# Altium schematic symbol library other.SchLib: 110 symbols
Pins are listed as number, name and electrical type; pins without a type are passive.

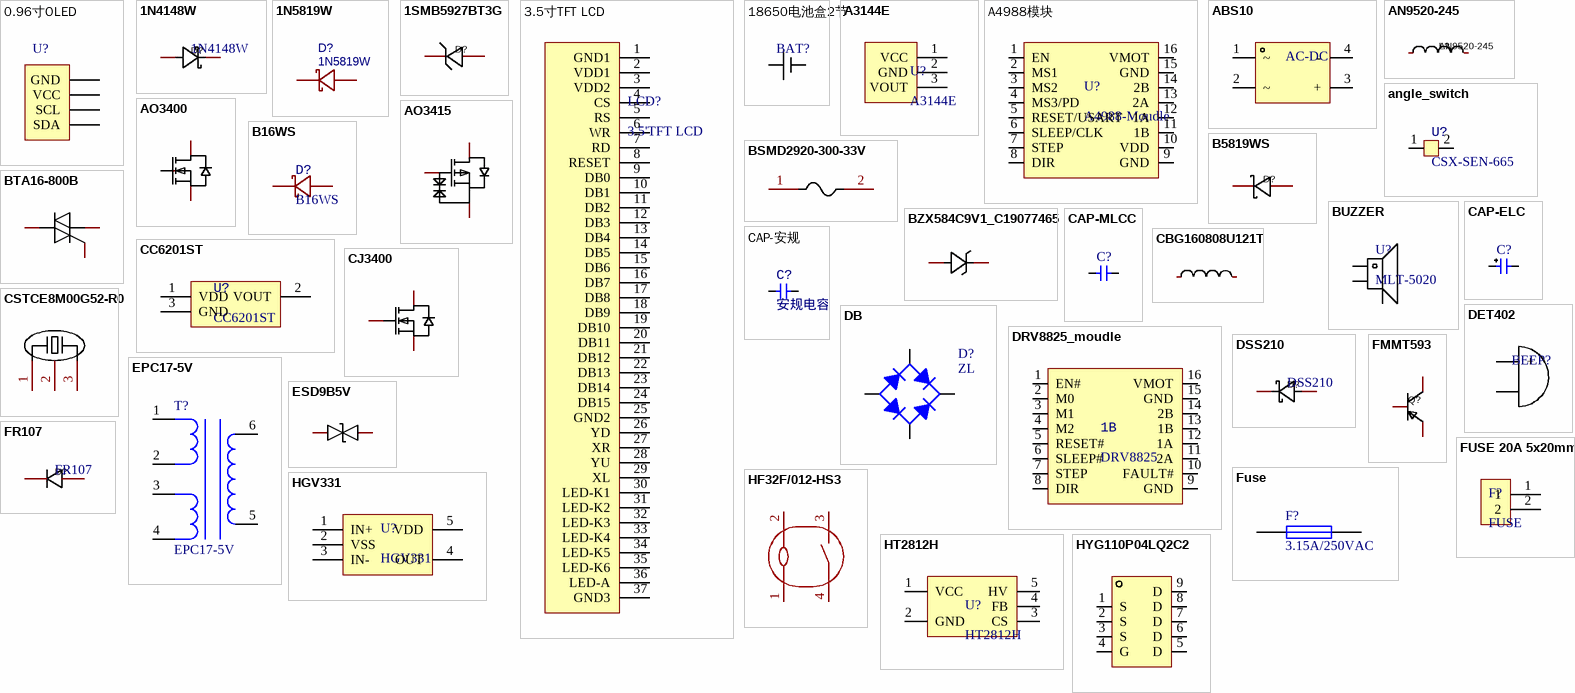
[diagram p0: symbols 0.96寸OLED to HYG110P04LQ2C2]

## 0.96寸OLED
designator U?
footprint 0.96寸OLED
pins: 1 GND, 2 VCC, 3 SCL, 4 SDA

## 1N4148W
designator D?
Manufacturer: 宏迦橙; Symbol: 1N4148W_C7420318; Add into BOM: yes; Diode Configuration: 独立式; Forward Voltage (Vf@If): 1.25V@150mA; Reverse Voltage (Vr): 100V; Average Rectified Current (Io): 150mA; Power Dissipation: 400mW; Reverse Leakage Current: 1uA@75V; Reverse Recovery Time (trr): 4ns; Device: 1N4148W_C7420318; Supplier: LCSC; Supplier Part: C7420318; Manufacturer Part: 1N4148W; JLCPCB Part Class: Extended Part; LCSC Part Name: 电压:100V 电流:150mA; Supplier Footprint: SOD-123; Datasheet: https://atta.szlcsc.com/upload/public/pdf/source/20230828/E5C3F7A4272052930A7E03B75759BF50.pdf; Convert to PCB: yes; Operating Temperature: -55℃~+150℃
footprint SOD-123_L2.7-W1.6-LS3.7-FD
pins: 1 A, 2 K

## 1N5819W
designator D?
BOM_Manufacturer: YFW佑风微; Contributor: LCSC; BOM_Supplier: LCSC; BOM_Supplier Part: C1884550; BOM_Manufacturer Part: 1N5819W; BOM_JLCPCB Part Class: Extended Part; spicePre: D; spiceSymbolName: 1N5819W_C1884550
footprint SOD-123F_L2.7-W1.7-LS3.7-RD-1
pins: 1 A, 2 K

## 1SMB5927BT3G
designator D?  (value not drawn)
Manufacturer: onsemi(安森美); Add into BOM: yes; Diode Configuration: 独立式; Zener Voltage (Nom): 12V; Zener Voltage (Range): 11.4V~12.6V; Tolerance: ±5%; Power Dissipation: 550mW; Reverse Leakage Current (Ir): 1uA@9.1V; Zener Impedance (Zzt): 6.5Ω; Name: 1SMB5927BT3G; Symbol: 1SMB5927BT3G; Device: 1SMB5927BT3G; LCSC Part Name: 1SMB5927BT3G; Supplier Part: C53171; Manufacturer Part: 1SMB5927BT3G; Supplier Footprint: SMB(DO-214AA); JLCPCB Part Class: Extended Part; Datasheet: https://atta.szlcsc.com/upload/public/pdf/source/20150713/1457707329413.pdf; Supplier: LCSC; Convert to PCB: yes
footprint SMB_L4.6-W3.6-LS5.3-RD
pins: 1 C, 2 A

## 3.5寸TFT LCD
designator LCD?, comment 3.5'TFT LCD
footprint 3.5寸TFT LCD
pins: 1 GND1, 2 VDD1, 3 VDD2, 4 CS, 5 RS, 6 WR, 7 RD, 8 RESET, 9 DB0, 10 DB1, 11 DB2, 12 DB3, 13 DB4, 14 DB5, 15 DB6, 16 DB7, 17 DB8, 18 DB9, 19 DB10, 20 DB11, 21 DB12, 22 DB13, 23 DB14, 24 DB15, 25 GND2, 26 YD, 27 XR, 28 YU, 29 XL, 30 LED-K1, 31 LED-K2, 32 LED-K3, 33 LED-K4, 34 LED-K5, 35 LED-K6, 36 LED-A, 37 GND3

## 18650电池盒2节
designator BAT?  (value not drawn)
footprint 18650电池盒2节
pins: 1 +, 2 -

## A3144E
designator U?
footprint SOT-23-3_L2.9-W1.6-P1.90-LS2.8-BR
pins: 1 VCC, 2 GND, 3 VOUT

## A4988模块
designator U?, comment A4988-Moudle
footprint A4988_Moudle
pins: 1 EN, 2 MS1, 3 MS2, 4 MS3/PD, 5 RESET/USART, 6 SLEEP/CLK, 7 STEP, 8 DIR, 9 GND, 10 VDD, 11 1B, 12 1A, 13 2A, 14 2B, 15 GND, 16 VMOT

## ABS10
designator AC-DC
footprint ABF_L5.1-W4.4-P4.00-LS6.2-BL
pins: 1 ~, 2 ~, 3 +, 4 -

## AN9520-245
designator L?
Manufacturer: rainsun(霖昱微); Add into BOM: yes; Name: AN9520-245; Symbol: AN9520-245; Device: AN9520-245; LCSC Part Name: AN9520-245; Supplier Part: C99665; Manufacturer Part: AN9520-245; Supplier Footprint: SMD,2.1x9.5mm; JLCPCB Part Class: Extended Part; Datasheet: https://atta.szlcsc.com/upload/public/pdf/source/20170425/1493115807294.pdf; Supplier: LCSC; Convert to PCB: yes
footprint ANT-SMD_L9.5-W2.1
pins: 1, 2

## angle_switch
designator U?, comment CSX-SEN-665
footprint Angle_switch
pins: 1, 2

## AO3400
designator Q?  (value not drawn)
Manufacturer: VBsemi(台湾微碧); Symbol: AO3400_C693097; Add into BOM: yes; Type: N沟道; Drain Source Voltage (Vdss): 30V; Continuous Drain Current (Id): 5.3A; Power Dissipation (Pd): 1.1W; Drain Source On Resistance (RDS(on)@Vgs,Id): 30mΩ@10V,3.2A; Gate Threshold Voltage (Vgs(th)@Id): 2V@250μA; Name: AO3400; Device: AO3400; LCSC Part Name: N沟道 30V 5.3A; Supplier Part: C693097; Manufacturer Part: AO3400; Supplier Footprint: SOT-23-3; JLCPCB Part Class: Extended Part; Datasheet: https://atta.szlcsc.com/upload/public/pdf/source/20200629/C693097_6DF312B5CB762B32704E477F09B10C51.pdf; Supplier: LCSC; Convert to PCB: yes
footprint SOT-23-3_L2.9-W1.6-P1.90-LS2.8-BR
pins: 1 G, 2 S, 3 D

## AO3415
designator Q?  (value not drawn)
Manufacturer: AOS; Add into BOM: yes; Type: P沟道; Drain Source Voltage (Vdss): 20V; Continuous Drain Current (Id): 4A; Power Dissipation (Pd): 1.5W; Drain Source On Resistance (RDS(on)@Vgs,Id): 43mΩ@4.5V,4A; Gate Threshold Voltage (Vgs(th)@Id): 1V@250μA; Name: AO3415; Symbol: AO3415; Device: AO3415; LCSC Part Name: P沟道 20V 4A; Supplier Part: C14354; Manufacturer Part: AO3415; Supplier Footprint: SOT-23-3L; JLCPCB Part Class: Extended Part; Datasheet: https://atta.szlcsc.com/upload/public/pdf/source/20130805/1457706631456.pdf; Supplier: LCSC; Convert to PCB: yes
footprint SOT-23-3_L2.9-W1.6-P1.90-LS2.8-BR
pins: 1 G, 2 S, 3 D

## B16WS
designator D?
footprint SOD-323_L1.8-W1.3-LS2.5-RD
pins: 1 A, 2 K

## B5819WS
designator D?
Manufacturer: CJ(江苏长电/长晶); Name: B5819WS; Symbol: B5819WS_C22624; Add into BOM: yes; Reverse Voltage (Vr): 40V; Average Rectified Current (Io): 1A; Forward Voltage (Vf@If): 600mV@1A; Device: B5819WS_C22624; LCSC Part Name: 40V 1A 600mV@1A; Supplier Part: C22624; Manufacturer Part: B5819WS; Supplier Footprint: SOD-323; JLCPCB Part Class: Extended Part; Datasheet: https://atta.szlcsc.com/upload/public/pdf/source/20170919/C22624_1505799673448977596.pdf; Supplier: LCSC; Convert to PCB: yes
footprint SOD-323_L1.8-W1.3-LS2.5-RD
3D model SOD-323_L1.7-W1.3-H1.1-LS2.5
footprint SOD-123F_L2.7-W1.7-LS3.7-RD-1
pins: 1 K, 2 A

## BSMD2920-300-33V
designator F?  (value not drawn)
Manufacturer: BHFUSE(佰宏); Add into BOM: yes; Operating Voltage (Max): 33V; Current Rating (Max): 40A; Hold Current: 3A; Trip Current: 6A; Power Dissipation: 1.8W; Resistance - Initial (Ri) (Min): 12mΩ; Resistance - Post Trip (R1) (Max): 48mΩ; Maximum Time to Trip: 20s; Symbol: BSMD2920-300-33V; Device: BSMD2920-300-33V; Supplier: LCSC; Supplier Part: C18203127; Manufacturer Part: BSMD2920-300-33V; JLCPCB Part Class: Extended Part; LCSC Part Name: 33V 3A 2920自恢复; Supplier Footprint: 2920; Datasheet: https://atta.szlcsc.com/upload/public/pdf/source/20230927/D42B19FE12FAEFDE96DEFFB382FEF935.pdf; Convert to PCB: yes; Operating Temperature: -40℃~+85℃
footprint F2920
pins: 1, 2

## BTA16-800B
designator Q?  (value not drawn)
Manufacturer: Slkor(萨科微); Device: BTA16-800B_C253901; Add into BOM: yes; Name: BTA16-800B; Symbol: BTA16-800B; LCSC Part Name: BTA16-800B; Supplier Part: C253901; Manufacturer Part: BTA16-800B; Supplier Footprint: TO-220; JLCPCB Part Class: Extended Part; Datasheet: https://atta.szlcsc.com/upload/public/pdf/source/20190115/C253901_3EB918B4D77953787740B4438B431D4E.pdf; Supplier: LCSC; Convert to PCB: yes
footprint TO-220-3_L10.0-W4.5-P2.54-L
pins: 1 A1, 2 A2, 3 G

## BUZZER
designator U?, comment MLT-5020
footprint BUZ-SMD_L5.0-W5.5-P4.60
pins: 1, 2, 3

## BZX584C9V1_C19077465
designator D?  (value not drawn)
Manufacturer: 宏迦橙; Add into BOM: yes; Diode Configuration: 独立式; Zener Voltage (Nom): 9.1V; Reverse Leakage Current (Ir): 500nA@6V; Zener Voltage (Range): 8.5V~9.6V; Power Dissipation: 150mW; Zener Impedance (Zzt): 15Ω; Symbol: BZX584C9V1_C19077465; Device: BZX584C9V1_C19077465; Supplier: LCSC; Supplier Part: C19077465; Manufacturer Part: BZX584C9V1; LCSC Part Name: BZX584C9V1; Supplier Footprint: SOD-523; Datasheet: https://atta.szlcsc.com/upload/public/pdf/source/20231117/AFAEAC6106ACB8F1D9C0D87BFA0778C8.pdf; Convert to PCB: yes
footprint SOD-523_L1.2-W0.8-LS1.6-FD
pins: 1 A, 2 K

## CAP-ELC
designator C?
footprint CE-2.5*6.3*11.2-H - BK (直插电解电容-脚距2.5mm直径6.3mm高度11.2mm)
footprint CAP 3.5*8*11.5-H - GD-H2.6 (脚距3.5mm直径8mm高度11.5mm-抬升2.6)
footprint CAP-SMD_BD8.0-L8.3-W8.3-LS9.3-FD
footprint CAP-TH_BD8.0-P3.50-D0.6-FD
footprint CAP-SMD_BD5.0-L5.3-W5.3-FD
pins: 1, 2

## CAP-MLCC
designator C?
footprint C0603
footprint C0805
footprint C1206
pins: 1, 2

## CAP-安规
designator C?, comment 安规电容
footprint CONN-TH_L18.0-W9.5_MPX105K31D5KN15800
pins: 1, 2

## CBG160808U121T
designator L?  (value not drawn)
Manufacturer: FH(风华); Add into BOM: yes; Impedance @ Frequency: 120Ω@100MHz; Tolerance: ±25%; DC Resistance: 300mΩ; Current Rating: 200mA; Circuits: 1; Symbol: CBG160808U121T; Device: CBG160808U121T; LCSC Part Name: 单路 0603磁珠 阻抗120Ω@100MHz; Supplier Part: C50843; Manufacturer Part: CBG160808U121T; Supplier Footprint: 0603; JLCPCB Part Class: Extended Part; Datasheet: https://atta.szlcsc.com/upload/public/pdf/source/20190129/C361667_1614D407CC98D1D3CFBD9E1F7511C14D.pdf; Supplier: LCSC; Convert to PCB: yes
footprint L0603
pins: 1, 2

## CC6201ST
designator U?
footprint SOT-23-3_L2.9-W1.3-P1.90-LS2.4-BR
pins: 1 VDD, 2 VOUT, 3 GND

## CJ3400
designator Q?  (value not drawn)
Manufacturer: CJ(江苏长电/长晶); Add into BOM: yes; Type: 1个N沟道; Drain Source Voltage (Vdss): 30V; Continuous Drain Current (Id): 5.8A; Power Dissipation (Pd): 350mW; Drain Source On Resistance (RDS(on)@Vgs,Id): 35mΩ@10V,5.8A; Gate Threshold Voltage (Vgs(th)@Id): 1.4V@250uA; Name: CJ3400; Symbol: CJ3400; Device: CJ3400; LCSC Part Name: 1个N沟道 耐压:30V 电流:5.8A; Supplier Part: C19019; Manufacturer Part: CJ3400; Supplier Footprint: SOT-23; JLCPCB Part Class: Extended Part; Datasheet: https://atta.szlcsc.com/upload/public/pdf/source/20140809/1457707205786.pdf; Supplier: LCSC; Convert to PCB: yes
footprint SOT-23_L2.9-W1.3-P1.90-LS2.4-BR
pins: 1 G, 2 S, 3 D

## CSTCE8M00G52-R0
designator X?  (value not drawn)
Manufacturer: muRata(村田); Name: 8MHz; Add into BOM: yes; Value: 8MHz; Frequency Stability: ±0.2%; Frequency Tolerance: ±0.5%; Built-in Load Capacitance: 10pF; Resonant Impedance: 40Ω; Symbol: CSTCE8M00G52-R0; Device: CSTCE8M00G52-R0; LCSC Part Name: 8.000MHz  ±0.5%  10pF 停产; Supplier Part: C22549; Manufacturer Part: CSTCE8M00G52-R0; Supplier Footprint: SMD3213-3P; JLCPCB Part Class: Extended Part; Datasheet: https://atta.szlcsc.com/upload/public/pdf/source/20160120/1457707754326.pdf; Supplier: LCSC; Convert to PCB: yes; Operating Temperature: -20℃~+80℃
footprint OSC-SMD_3P-L3.2-W1.3-P1.2-L
pins: 1, 2, 3

## DB
designator D?, comment ZL
整流桥; 版权归属: 黎明电子style; BOM名称: 整流桥; 学习资源: https://lmdzstyle.taobao.com/
footprint DB (8.5*7.6*3mm(长宽高))
footprint BR3 (18*7.1mm(宽高))
footprint BR8 (16*8mm(宽高))
footprint DBS (8.5*10.1*3mm(长宽高))
footprint GBP (14.2*2.9*10.5mm(长宽高))
footprint GBU (整流桥，脚距：5mm/200mil)
footprint KBP (14.7*4.8*12.2mm(长宽高))
footprint MBF (4.7*7*1.5mm(长宽高))
footprint MBM (4.8*5.2*2.5mm(长宽高))
footprint MBS (4.1*6.8*2.5mm(长宽高))
footprint RB-15 (8.9*3.5mm(直径，高))
footprint RB-20 (8.9*3.5mm(直径，高))
footprint WOM (8.1*5.1mm(直径，高))
pins: AC1, AC2, DC+, DC-

## DET402
designator BEEP?  (value not drawn)
footprint DET402
pins: 1 +, 2

## DRV8825_moudle
designator 1B, comment DRV8825
footprint A4988_Moudle
pins: 1 EN#, 2 M0, 3 M1, 4 M2, 5 RESET#, 6 SLEEP#, 7 STEP, 8 DIR, 9 GND, 10 FAULT#, 11 2A, 12 1A, 13 1B, 14 2B, 15 GND, 16 VMOT

## DSS210
designator D?
Manufacturer: CJ(江苏长电/长晶); Symbol: DSS210_C2923957; Add into BOM: yes; Diode Configuration: 独立式; Reverse Voltage (Vr): 100V; Average Rectified Current (Io): 2A; Forward Voltage (Vf@If): 850mV@2A; Reverse Leakage Current (Ir): 100uA@100V; Name: DSS210; Device: DSS210; LCSC Part Name: 100V 2A 850mV@2A; Supplier Part: C2923957; Manufacturer Part: DSS210; Supplier Footprint: SOD-123FL; JLCPCB Part Class: Extended Part; Datasheet: https://atta.szlcsc.com/upload/public/pdf/source/20211213/7F601335AE5371676F9DA62BFA6F3CFB.pdf; Supplier: LCSC; Convert to PCB: yes
footprint SOD-123F_L2.7-W1.7-LS3.7-RD-1
pins: 1 A, 2 K

## EPC17-5V
designator T?
12V 高频变压器; 版权归属: 黎明电子style; ROM名称: 12V 高频变压器; 学习资源: https://lmdzstyle.taobao.com/
footprint EPC17-10V 5+5 (磁芯17mm，高10mm，脚距3mm，)
footprint EE-10-H-6P-H1.5 (抬升1.5)
footprint EE-10-H-6P-H1 (抬升1.5)
pins: 1, 2, 3, 4, 5, 6

## ESD9B5V
designator D?  (value not drawn)
Manufacturer: TECH PUBLIC(台舟); Add into BOM: yes; Symbol: ESD9B5V; Device: ESD9B5V; Supplier: LCSC; Supplier Part: C2905646; Manufacturer Part: ESD9B5V; JLCPCB Part Class: Extended Part; LCSC Part Name: ESD9B5V; Supplier Footprint: SOD-923; Datasheet: https://atta.szlcsc.com/upload/public/pdf/source/20211025/6ACB8012D504EAE1E8014DFB59F8F807.pdf; Convert to PCB: yes
footprint SOD-923_L0.8-W0.6-LS1.0-BI-1
pins: 1, 2

## FMMT593
designator Q?, comment FMMT593_C686648  (value not drawn)
Manufacturer: PJSEMI(平晶微); Add into BOM: yes; Transistor Type: PNP; Collector-Emitter Breakdown Voltage (Vceo): 100V; Collector Current (Ic): 1A; Power Dissipation (Pd): 250mW; Collector Cut-Off Current (Icbo): 100nA; Collector-Emitter Saturation Voltage (VCE(sat)@Ic,Ib): 300mV@500mA,50mA; DC Current Gain (hFE@Ic,Vce): 100@500mA,5V; Transition Frequency (fT): 150MHz; Name: FMMT593; Symbol: FMMT593; Device: FMMT593_C686648; LCSC Part Name: PNP 100V 1A; Supplier Part: C686648; Manufacturer Part: FMMT593; Supplier Footprint: SOT-23; JLCPCB Part Class: Extended Part; Datasheet: https://atta.szlcsc.com/upload/public/pdf/source/20200623/C686648_1A1010DCFFDFD669E9C9C5EDEB156CF4.pdf; Supplier: LCSC; Convert to PCB: yes; Operating Temperature: +150℃@(Tj)
footprint SOT-23-3_L2.9-W1.6-P1.90-LS2.8-BR
pins: 1 B, 2 E, 3 C

## FR107
designator D?
Manufacturer: BORN(伯恩半导体); Symbol: FR107_C511885; Add into BOM: yes; Forward Voltage (Vf@If): 1.3V@1A; Reverse Voltage (Vr): 1kV; Average Rectified Current (Io): 1A; Reverse Leakage Current: 5uA@1kV; Reverse Recovery Time (trr): 500ns; Name: FR107; Device: FR107_C511885; LCSC Part Name: 电压:1kV 电流:1A; Supplier Part: C511885; Manufacturer Part: FR107; Supplier Footprint: SOD-123; JLCPCB Part Class: Extended Part; Datasheet: https://atta.szlcsc.com/upload/public/pdf/source/20200413/C511885_F5BBF7A87475723E74BE0D118A106A7A.pdf; Supplier: LCSC; Convert to PCB: yes; Diode Configuration: -; Operating Temperature: -55℃~+150℃@(Tj)
footprint SOD-123_L2.6-W1.6-LS3.5-RD
pins: 1 K, 2 A

## Fuse
designator F?, comment 3.15A/250VAC
Fuse; Published: 8-Jun-2000; LatestRevisionDate: 17-Jul-2002; LatestRevisionNote: Re-released for DXP Platform.; PackageReference: PIN-W2/E2.8; Publisher: Altium Limited; PackageDescription: Thru-Hole; 2 Leads
footprint FUSE-TH_L8.5-W4.0-P5.08-D0.6
footprint FUSE-SMD_L10.1-W3.1
pins: 1, 2

## FUSE 20A 5x20mm
designator F?, comment FUSE
footprint FUSE 20A 0520
pins: 1, 2

## HF32F/012-HS3
designator K?  (value not drawn)
Manufacturer: HF(宏发); Add into BOM: yes; Coil Voltage: 12V; Contact Form: 一组常开:1A(单刀单掷-常开); Pin Number: 4; Contact Rating: 5A@30VDC；5A@250VAC；10A@125VAC; Maximum Switching Voltage: 250V@AC；30V@DC; Coil Rated Power: 450mW; Maximum Switching Current: 10A; Coil Type: 无极性-单线圈; Coil Resistance: 320Ω; Contact Resistance: 100mΩ; Operate Time: 8ms; Release Time: 5ms; Symbol: HF32F/012-HS3; Device: HF32F/012-HS3; LCSC Part Name: HF32F/012-HS3; Supplier Part: C400942; Manufacturer Part: HF32F/012-HS3; Supplier Footprint: 插件,10.2x18.4mm; JLCPCB Part Class: Extended Part; Datasheet: https://atta.szlcsc.com/upload/public/pdf/source/20190627/C400945_D76C76579972C67ADBE0AD5CA46B6D01.pdf; Supplier: LCSC; Convert to PCB: yes; Contact Material: AgNi; Operating Temperature: -40℃~+70℃
footprint RELAY-TH_HF32F-X-HXXXX-XXX
3D model RELAY-TH_L18.4-W10.2-H15.3-A
pins: 1, 2, 3, 4

## HGV331
designator U?
footprint SOT-23-5_L2.9-W1.6-P0.95-LS2.9-BL
pins: 1 IN+, 2 VSS, 3 IN-, 4 OUT, 5 VDD

## HT2812H
designator U?
footprint SOP5_L
pins: 1 VCC, 2 GND, 3 CS, 4 FB, 5 HV

## HYG110P04LQ2C2
designator Q?  (value not drawn)
Manufacturer: HUAYI(华羿微); Add into BOM: yes; Type: 1个P沟道; Drain Source Voltage (Vdss): 40V; Continuous Drain Current (Id): 55A; Power Dissipation (Pd): 62.5W; Drain Source On Resistance (RDS(on)@Vgs,Id): 9mΩ@10V,20A; Gate Threshold Voltage (Vgs(th)@Id): 1.6V@250uA; Total Gate Charge (Qg@Vgs): 76nC@10V; Input Capacitance (Ciss@Vds): 4.468nF@25V; Reverse Transfer Capacitance (Crss@Vds): 140pF@25V; Symbol: HYG110P04LQ2C2; Device: HYG110P04LQ2C2; LCSC Part Name: 1个P沟道 耐压:40V 电流:55A; Supplier Part: C2891580; Manufacturer Part: HYG110P04LQ2C2; Supplier Footprint: PDFN-8(5.9x5.2); JLCPCB Part Class: Extended Part; Datasheet: https://atta.szlcsc.com/upload/public/pdf/source/20210918/C2891580_F8AA530E8886F11C9EBC9E8EFD99D4C1.pdf; Supplier: LCSC; Convert to PCB: yes; Operating Temperature: -55℃~+175℃@(Tj)
footprint PDFN-8_L5.2-W5.9-P1.27-LS6.2-BL
pins: 1 S, 2 S, 3 S, 4 G, 5 D, 6 D, 7 D, 8 D, 9 D

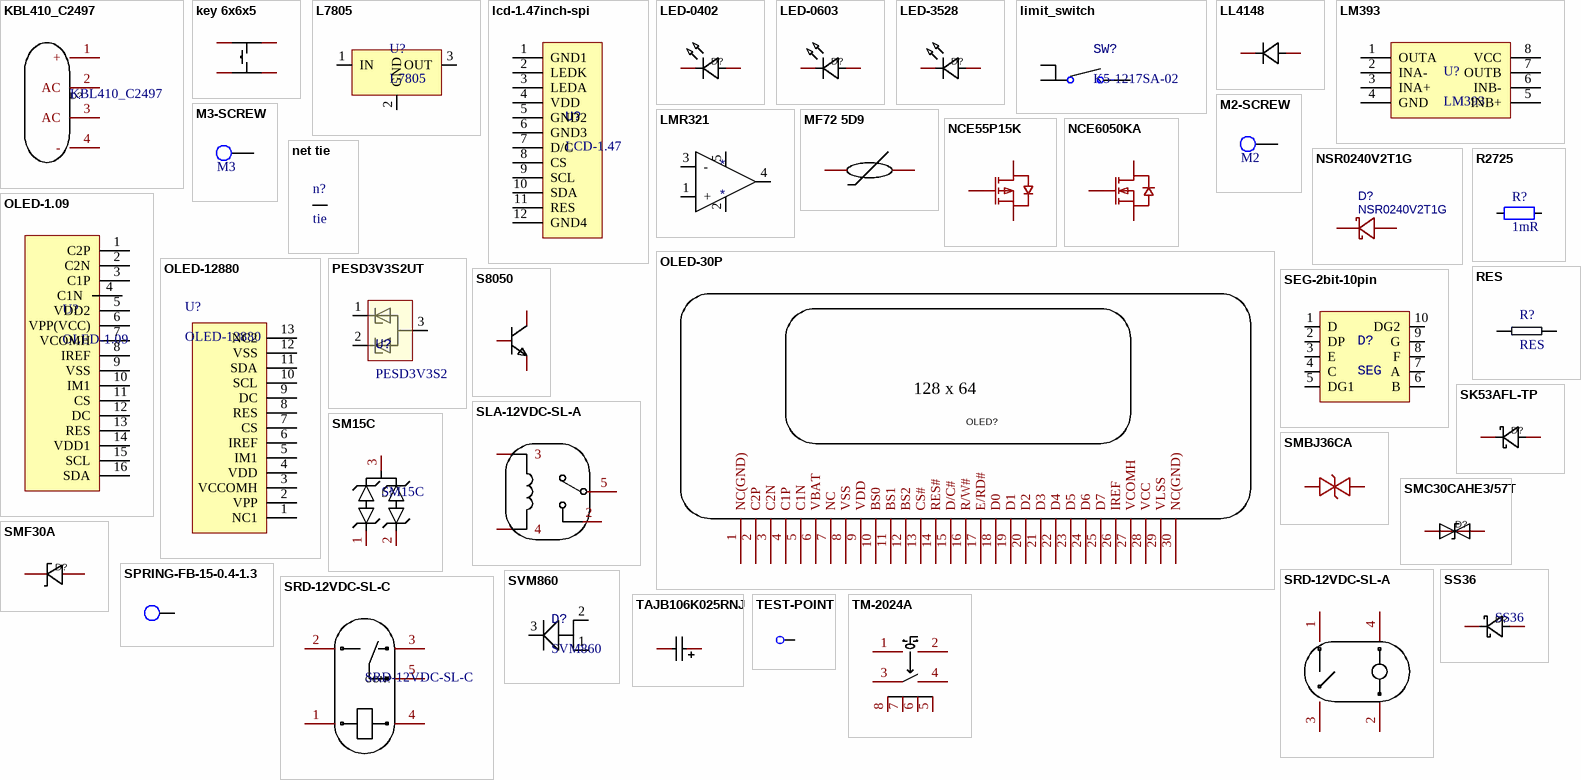
[diagram p1: symbols KBL410_C2497 to TM-2024A]

## KBL410_C2497
designator D?
Manufacturer: MDD; Name: KBL410; Add into BOM: yes; Reverse Voltage (Vr): 1kV; Average Rectified Current (Io): 4A; Forward Voltage (Vf@If): 1V@4A; Reverse Leakage Current (Ir): 10uA@1kV; Peak Forward Surge Current: 125A; Symbol: KBL410; Device: KBL410_C2497; LCSC Part Name: 电压:1kV 电流:4A; Supplier Part: C2497; Manufacturer Part: KBL410; Supplier Footprint: KBL; JLCPCB Part Class: Extended Part; Datasheet: https://atta.szlcsc.com/upload/public/pdf/source/20230823/8B67E1543A3BD511A5A3DDD0AFDE93C8.pdf; Supplier: LCSC; Convert to PCB: yes; Operating Temperature: -55℃~+150℃@(Tj)
footprint DIO-BG-TH_RS-4L
pins: 1 +, 2 AC, 3 AC, 4 -

## key 6x6x5
designator SW?, comment TS-1002S-04526C  (value not drawn)
Manufacturer: XUNPU(讯普); Add into BOM: yes; Circuit: 单刀单掷; Actuator Style: 圆形按钮; Switch Length: 6mm; Switch Height: 4.5mm; Contact Current: 50mA; Voltage Rating (DC): 12V; Symbol: TS-1002S-04526C; Device: TS-1002S-04526C; LCSC Part Name: 6*6*4.5mm 立贴 轻触开关; Supplier Part: C455109; Manufacturer Part: TS-1002S-04526C; Supplier Footprint: SMD,6x6mm; JLCPCB Part Class: Extended Part; Datasheet: https://atta.szlcsc.com/upload/public/pdf/source/20191118/C455126_F61E8FA1ED640FB1CE0B30B55DEB62E3.pdf; Supplier: LCSC; Convert to PCB: yes; Mounting Style: 立贴; Switch Width: 6mm; With Lamp: -; Mechanical Life: -
footprint SW-SMD_4P-L6.0-W6.0-P4.50-LS9.0-2
pins: 1, 2, 3, 4

## L7805
designator U?
footprint TO-220-3_L10.0-W4.5-P2.54-L
pins: 1 IN, 2 GND, 3 OUT

## lcd-1.47inch-spi
designator U?, comment LCD-1.47
footprint LCD-1.47inch
pins: 1 GND1, 2 LEDK, 3 LEDA, 4 VDD, 5 GND2, 6 GND3, 7 D/C, 8 CS, 9 SCL, 10 SDA, 11 RES, 12 GND4

## LED-0402
designator D?, comment VLMG1500-GS08  (value not drawn)
Manufacturer: VISHAY(威世); Add into BOM: yes; Emitted Color: 普绿/黄绿; Name: VLMG1500-GS08; Symbol: VLMG1500-GS08; Device: VLMG1500-GS08; LCSC Part Name: 普绿/黄绿; Supplier Part: C511404; Manufacturer Part: VLMG1500-GS08; Supplier Footprint: 0402; JLCPCB Part Class: Extended Part; Datasheet: https://atta.szlcsc.com/upload/public/pdf/source/20200408/C511042_90D3007A8FB4E63E401D7A77D5F44EFD.pdf; Supplier: LCSC; Convert to PCB: yes
footprint LED0402-BLUE
footprint LED0402-GREEN
footprint LED0402-RED
pins: 1 K, 2 A

## LED-0603
designator D?, comment VLMG1500-GS08  (value not drawn)
Manufacturer: VISHAY(威世); Add into BOM: yes; Emitted Color: 普绿/黄绿; Name: VLMG1500-GS08; Symbol: VLMG1500-GS08; Device: VLMG1500-GS08; LCSC Part Name: 普绿/黄绿; Supplier Part: C511404; Manufacturer Part: VLMG1500-GS08; Supplier Footprint: 0402; JLCPCB Part Class: Extended Part; Datasheet: https://atta.szlcsc.com/upload/public/pdf/source/20200408/C511042_90D3007A8FB4E63E401D7A77D5F44EFD.pdf; Supplier: LCSC; Convert to PCB: yes
footprint LED0603
pins: 1 K, 2 A

## LED-3528
designator D?, comment LED3528  (value not drawn)
Manufacturer: VISHAY(威世); Name: VLMG1500-GS08; Add into BOM: yes; Emitted Color: 普绿/黄绿; Symbol: VLMG1500-GS08; Device: VLMG1500-GS08; LCSC Part Name: 普绿/黄绿; Supplier Part: C511404; Manufacturer Part: VLMG1500-GS08; Supplier Footprint: 0402; JLCPCB Part Class: Extended Part; Datasheet: https://atta.szlcsc.com/upload/public/pdf/source/20200408/C511042_90D3007A8FB4E63E401D7A77D5F44EFD.pdf; Supplier: LCSC; Convert to PCB: yes
footprint LED-SMD_L3.2-W2.8-R-RD
pins: 1 K, 2 A

## limit_switch
designator SW?, comment K5-1217SA-02
footprint SW-SMD_HRO_K5-1217SA-XX
pins: 1, 2, 3

## LL4148
designator D?  (value not drawn)
Manufacturer: YONGYUTAI(永裕泰); Symbol: LL4148_C2891733; Add into BOM: yes; Forward Voltage (Vf@If): 1V@10mA; Reverse Voltage (Vr): 75V; Average Rectified Current (Io): 150mA; Power Dissipation: 500mW; Reverse Leakage Current: 5uA@75V; Reverse Recovery Time (trr): 4ns; Name: LL4148; Device: LL4148_C2891733; LCSC Part Name: 电压:75V 电流:150mA; Supplier Part: C2891733; Manufacturer Part: LL4148; Supplier Footprint: LL-34; JLCPCB Part Class: Extended Part; Datasheet: https://atta.szlcsc.com/upload/public/pdf/source/20210901/131A9B9B28E410A4B42524A37BDC743F.pdf; Supplier: LCSC; Convert to PCB: yes; Diode Configuration: -; Operating Temperature: -
footprint LL-34_L3.4-W1.5-RD
pins: 1 K, 2 A

## LM393
designator U?
footprint SOIC-8_L5.0-W4.0-P1.27-LS6.0-BL
pins: 1 OUTA, 2 INA-, 3 INA+, 4 GND, 5 INB+, 6 INB-, 7 OUTB, 8 VCC

## LMR321
designator *
footprint SSOP-5_L2.9-W1.6-P0.95-LS2.8-TL
pins: 1 +, 2, 3 -, 4, 5

## M2-SCREW
designator J?, comment M2
footprint M2-SCREW
pins: 1

## M3-SCREW
designator J?, comment M3
footprint M3-SCREW
pins: 1

## MF72 5D9
designator R?  (value not drawn)
Manufacturer: 时恒; Symbol: MF72 5D-9; Add into BOM: yes; Resistance @ 25℃: 5Ω; B Constant (25℃/50℃): 2600K; Resistance Tolerance: ±20%; Power: 2W; B Constant Tolerance: ±10%; Steady State Current (Max): 3A; Device: MF72 5D9; Value: MF72; Supplier: LCSC; Manufacturer Part: MF72 5D9; Supplier Part: C11277; JLCPCB Part Class: Extended Part; LCSC Part Name: 5Ω 电阻精度:±20% 2600K; Supplier Footprint: 插件,P=7.5mm; Datasheet: https://atta.szlcsc.com/upload/public/pdf/source/20160405/1459820109010.pdf; Convert to PCB: yes; B Constant (25℃/75℃): -; B Constant (25℃/85℃): -; B Constant (25℃/100℃): -; Operating Temperature: -40℃~+170℃
footprint RES-TH_L11.0-W5.5-P7.50-D0.8-S5.50
pins: 1, 2

## NCE55P15K
designator Q?  (value not drawn)
Manufacturer: NCE(无锡新洁能); Add into BOM: yes; Type: 1个P沟道; Drain to Source Voltage: 55V; Current - Continuous Drain(Id): 15A; RDS(on): 75mΩ@10V,5A; Pd - Power Dissipation: 35W; Gate Threshold Voltage (Vgs(th)@Id): 3.5V; Gate Charge(Qg): 26nC@30V; Input Capacitance(Ciss@Vds): 1.45nF@20V; Reverse Transfer Capacitance (Crss@Vds): 110pF; Symbol: NCE55P15K; Device: NCE55P15K; LCSC Part Name: 1个P沟道 耐压:55V 电流:15A; Supplier Part: C130102; Manufacturer Part: NCE55P15K; Supplier Footprint: TO-252-2(DPAK); JLCPCB Part Class: Extended Part; Datasheet: https://atta.szlcsc.com/upload/public/pdf/source/20170919/C130102_1505787179268976875.pdf; Supplier: LCSC; Convert to PCB: yes; Operating Temperature: -55℃~+175℃
footprint TO-252-2_L6.6-W6.1-P4.57-LS10.1-TL-CW
pins: 1 G, 2 D, 3 S

## NCE6050KA
designator Q?  (value not drawn)
Manufacturer: NCE(无锡新洁能); Add into BOM: yes; Type: 1个N沟道; Drain to Source Voltage: 60V; Current - Continuous Drain(Id): 50A; RDS(on): 20mΩ@10V,20A; Pd - Power Dissipation: 85W; Gate Threshold Voltage (Vgs(th)@Id): 2.5V; Gate Charge(Qg): 50nC@30V; Input Capacitance(Ciss@Vds): 2.05nF@30V; Reverse Transfer Capacitance (Crss@Vds): 120pF; Symbol: NCE6050KA; Device: NCE6050KA; LCSC Part Name: 1个N沟道 耐压:60V 电流:50A; Supplier Part: C96013; Manufacturer Part: NCE6050KA; Supplier Footprint: TO-252-2(DPAK); JLCPCB Part Class: Extended Part; Datasheet: https://atta.szlcsc.com/upload/public/pdf/source/20170228/1488267686631.pdf; Supplier: LCSC; Convert to PCB: yes; Operating Temperature: -55℃~+175℃
footprint TO-252-2_L6.6-W6.1-P4.57-LS10.1-TL-CW
3D model TO-252-2_L6.6-W6.1-P4.57-LS10.1-TL-CW
footprint TO-252-2_L6.6-W6.1-P4.57-LS10.1-TL-CW
pins: 1 G, 2 D, 3 S

## net tie
designator n?, comment tie
footprint net tie
pins: 1, 2

## NSR0240V2T1G
designator D?
BOM_Manufacturer: onsemi(安森美); Contributor: lcsc; BOM_Supplier: LCSC; BOM_Supplier Part: C889732; BOM_Manufacturer Part: NSR0240V2T1G; BOM_JLCPCB Part Class: Extended Part; spicePre: D; spiceSymbolName: NSR0240V2T1G
footprint SOD-523_L1.2-W0.8-LS1.6-RD
pins: 1 K, 2 A

## OLED-1.09
designator U?
pins: 1 C2P, 2 C2N, 3 C1P, 4 C1N, 5 VDD2, 6 VPP(VCC), 7 VCOMH, 8 IREF, 9 VSS, 10 IM1, 11 CS, 12 DC, 13 RES, 14 VDD1, 15 SCL, 16 SDA

## OLED-30P
designator OLED?, comment QG-2864KLBEG01  (value not drawn)
Manufacturer: Allvision(全智景); Add into BOM: yes; Main Control Chip: SSD1306; Name: QG-2864KLBEG01; Symbol: QG-2864KLBEG01; Device: QG-2864KLBEG01; LCSC Part Name: 0.96寸 蓝光 128x64像素分辨率 30PIN; Supplier Part: C91755; Manufacturer Part: QG-2864KLBEG01; Supplier Footprint: -; JLCPCB Part Class: Extended Part; Datasheet: https://atta.szlcsc.com/upload/public/pdf/source/20170511/1494500133030.pdf; Supplier: LCSC; Convert to PCB: yes; Size: 0.96
footprint OLED-SMD_QG-2864XXX
pins: 1 NC(GND), 2 C2P, 3 C2N, 4 C1P, 5 C1N, 6 VBAT, 7 NC, 8 VSS, 9 VDD, 10 BS0, 11 BS1, 12 BS2, 13 CS#, 14 RES#, 15 D/C#, 16 R/W#, 17 E/RD#, 18 D0, 19 D1, 20 D2, 21 D3, 22 D4, 23 D5, 24 D6, 25 D7, 26 IREF, 27 VCOMH, 28 VCC, 29 VLSS, 30 NC(GND)
text: 128 x 64

## OLED-12880
designator U?
footprint OLED-12880
pins: 1 NC1, 2 VPP, 3 VCCOMH, 4 VDD, 5 IM1, 6 IREF, 7 CS, 8 RES, 9 DC, 10 SCL, 11 SDA, 12 VSS, 13 NC2

## PESD3V3S2UT
designator U?, comment PESD3V3S2
footprint SOT-23-3_L2.9-W1.3-P1.90-LS2.4-BR
pins: 1, 2, 3

## R2725
designator R?, comment 1mR
footprint R2725
pins: 1, 2

## RES
designator R?
footprint R0603
footprint R1206
pins: 1, 2

## S8050
designator Q?  (value not drawn)
Manufacturer: YONGYUTAI(永裕泰); Symbol: S8050_C2891804; Add into BOM: yes; Transistor Type: NPN; Collector Current (Ic): 500mA; Collector-Emitter Breakdown Voltage (Vceo): 25V; Power Dissipation (Pd): 300mW; Collector Cut-Off Current (Icbo): 1uA; Collector-Emitter Saturation Voltage (VCE(sat)@Ic,Ib): 500mV@500mA,50mA; Name: S8050; Device: S8050_C2891804; LCSC Part Name: NPN 电流:500mA 耐压:25V; Supplier Part: C2891804; Manufacturer Part: S8050; Supplier Footprint: SOT-23; JLCPCB Part Class: Extended Part; Datasheet: https://atta.szlcsc.com/upload/public/pdf/source/20210901/5347316A10609C628D4D69AE01446E5B.pdf; Supplier: LCSC; Convert to PCB: yes; Transition Frequency (fT): -; Operating Temperature: -
footprint SOT-23-3_L2.9-W1.3-P1.90-LS2.4-BR
pins: 1 B, 2 E, 3 C

## SEG-2bit-10pin
designator D?, comment SEG
footprint LED-SEG-TH_10P-L25.0-W17.5-P2.54-S14.80-BL
pins: 1 D, 2 DP, 3 E, 4 C, 5 DG1, 6 B, 7 A, 8 F, 9 G, 10 DG2

## SK53AFL-TP
designator D?  (value not drawn)
Designer: U?; Symbol: SK53AFL-TP; Device: SK53AFL-TP
footprint SMA-FL_L4.2-W2.7-LS5.2-L-RD
pins: 1 K, 2 A

## SLA-12VDC-SL-A
designator RLY?  (value not drawn)
Manufacturer: 松乐; Add into BOM: yes; Coil Voltage: 12V; Contact Form: 一组常开:1A(单刀单掷-常开); Pin Number: 4; Maximum Switching Voltage: 250V@AC; Coil Rated Power: 900mW; Maximum Switching Current: 30A; Coil Type: 无极性-单线圈; Coil Resistance: 160Ω; Contact Resistance: 100mΩ; Operate Time: 10ms; Symbol: SLA-12VDC-SL-A; Device: SLA-12VDC-SL-A; LCSC Part Name: 12V继电器 单刀单掷-常开; Supplier Part: C55194; Manufacturer Part: SLA-12VDC-SL-A; Supplier Footprint: 插件,27.6x32mm; JLCPCB Part Class: Extended Part; Datasheet: https://atta.szlcsc.com/upload/public/pdf/source/20190830/C250645_74782F54872618D5E8967C4F5D779070.pdf; Supplier: LCSC; Convert to PCB: yes; Contact Rating: -; Release Time: 10ms
footprint RELAY-TH_SLA-XXVDC-XL-A
pins: 2, 3, 4, 5

## SM15C
designator D?
Manufacturer: MDD; Symbol: SM15C_C502556; Add into BOM: yes; Reverse Stand-Off Voltage (Vrwm): 15V; Breakdown Voltage: 16.7V; Peak Pulse Current (Ipp)@10/1000us: 10A; Maximum Clamping Voltage: 38V; Name: SM15C; Device: SM15C_C502556; LCSC Part Name: 双向TVS 15V截止 10A峰值脉冲; Supplier Part: C502556; Manufacturer Part: SM15C; Supplier Footprint: SOT-23; JLCPCB Part Class: Extended Part; Datasheet: https://atta.szlcsc.com/upload/public/pdf/source/20230823/BB190B531D14B621AB2DB5C7A2D7C1FE.pdf; Supplier: LCSC; Convert to PCB: yes
footprint SOT-23-3_L2.9-W1.6-P1.90-LS2.8-BR
pins: 1, 2, 3

## SMBJ36CA
designator U?  (value not drawn)
Manufacturer: MSKSEMI(美森科); Symbol: SMBJ36CA_C5331119; Add into BOM: yes; Reverse Stand-Off Voltage (Vrwm): 36V; Maximum Clamping Voltage: 58.1V; Peak Pulse Current (Ipp)@10/1000us: 10.33A; Peak Pulse Power Dissipation (Ppp)@10/1000us: 600W; Breakdown Voltage: 40V; Reverse Leakage Current (Ir): 5uA; Device: SMBJ36CA_C5331119; LCSC Part Name: 双向TVS 36V截止 10.4A峰值脉冲; Supplier Part: C5331119; Manufacturer Part: SMBJ36CA; Supplier Footprint: SMB; JLCPCB Part Class: Extended Part; Datasheet: https://atta.szlcsc.com/upload/public/pdf/source/20231121/5002069B79DE1AA656368C1D21D992E1.pdf; Supplier: LCSC; Convert to PCB: yes; Type: TVS
footprint SMB_L4.5-W3.6-LS5.3-BI
pins: 1, 2

## SMC30CAHE3/57T
designator D?, comment 1.5SMC30CAHE3/57T  (value not drawn)
Manufacturer: VISHAY(威世); Add into BOM: yes; Name: 1.5SMC30CAHE3/57T; Symbol: 1.5SMC30CAHE3/57T; Device: 1.5SMC30CAHE3/57T; LCSC Part Name: 1.5SMC30CAHE3/57T; Supplier Part: C266791; Manufacturer Part: 1.5SMC30CAHE3/57T; Supplier Footprint: DO-214AB; JLCPCB Part Class: Extended Part; Datasheet: https://atta.szlcsc.com/upload/public/pdf/source/20201127/C266791_DCFCBF6E8C40544EF502CA57B31F9E9C.pdf; Supplier: LCSC; Convert to PCB: yes
footprint SMC_L6.8-W5.9-LS7.8-BI
pins: 1 K, 2 A

## SMF30A
designator D?
Manufacturer: MDD; Name: SMF30A; Symbol: SMF30A_C364281; Add into BOM: yes; Polarity: 单向; Reverse Stand-Off Voltage (Vrwm): 30V; Breakdown Voltage: 33.3V; Peak Pulse Current (Ipp)@10/1000μs: 4.1A; Maximum Clamping Voltage: 48.4V; Device: SMF30A_C364281; LCSC Part Name: 单向TVS 30V截止 4.1A峰值脉冲; Supplier Part: C364281; Manufacturer Part: SMF30A; Supplier Footprint: SOD-123FL; JLCPCB Part Class: Extended Part; Datasheet: https://atta.szlcsc.com/upload/public/pdf/source/20220506/F75D2695B9D53266F17295F002E2C3E5.pdf; Supplier: LCSC; Convert to PCB: yes; Reverse Leakage Current (Ir): -
footprint SOD-123_L2.6-W1.6-LS3.5-RD
pins: 1 K, 2 A

## SPRING-FB-15-0.4-1.3
designator J?
footprint SPRING-15-0.4-1.3
footprint SPRING-15-0.4-1.3-10
pins: 1

## SRD-12VDC-SL-A
designator K?  (value not drawn)
Manufacturer: 松乐; Add into BOM: yes; Coil Voltage: 12V; Contact Form: 一组常开:1A(单刀单掷-常开); Pin Number: 4; Maximum Switching Voltage: 250V@AC; Coil Rated Power: 360mW; Maximum Switching Current: 15A; Coil Type: 无极性-单线圈; Coil Resistance: 400Ω; Contact Resistance: 100mΩ; Operate Time: 10ms; Symbol: SRD-12VDC-SL-A; Device: SRD-12VDC-SL-A; Supplier: LCSC; Manufacturer Part: SRD-12VDC-SL-A; Supplier Part: C93716; JLCPCB Part Class: Extended Part; LCSC Part Name: 蓝色; Supplier Footprint: 插件,15.6x19.2mm; Datasheet: https://atta.szlcsc.com/upload/public/pdf/source/20200305/C490149_C96E4098A3B1FFB377D5AD2E40B7C2A8.pdf; Convert to PCB: yes; Contact Rating: -; Release Time: 10ms
footprint RELAY-TH_SRD-XXVDC-XX-A
pins: 1, 2, 3, 4

## SRD-12VDC-SL-C
designator CON?
继电器; Manufacturer: 松乐; Add into BOM: yes; Coil Voltage: 12V; Coil Type: 非极化-单线圈; Pin Number: 5; Contact Form: 一组转换:1C(单刀双掷-转换); Maximum Switching Current: 15A; Maximum Switching Voltage: 250V@AC; Coil Rated Power: 360mW; Coil Resistance: 400Ω; Operate Time: 10ms; Contact Resistance: 100mΩ; Name: SRD-12VDC-SL-C; Symbol: SRD-12VDC-SL-C; Device: SRD-12VDC-SL-C; LCSC Part Name: 12V继电器 单刀双掷 蓝色; Supplier Part: C30431; Manufacturer Part: SRD-12VDC-SL-C; Supplier Footprint: 插件,15.6x19.2mm; JLCPCB Part Class: Extended Part; Datasheet: https://atta.szlcsc.com/upload/public/pdf/source/20180525/C30431_534ADD4B54993D382CD0EDFAB06D3E7F.pdf; Supplier: LCSC; Convert to PCB: yes; Contact Rating: -; Release Time: 10ms
footprint RELAY-TH_SRD-XXVDC-XL-C
pins: 1, 2, 3, 4, 5

## SS36
designator D?
Manufacturer: TWGMC(台湾迪嘉); Symbol: SS36_C727061; Add into BOM: yes; Diode Configuration: 独立式; Forward Voltage (Vf@If): 700mV@3A; Reverse Voltage (Vr): 60V; Average Rectified Current (Io): 3A; Reverse Leakage Current (Ir): 500uA@60V; Name: SS36; Device: SS36_C727061; LCSC Part Name: 电压:60V 电流:3A; Supplier Part: C727061; Manufacturer Part: SS36; Supplier Footprint: SMA(DO-214AC); JLCPCB Part Class: Extended Part; Datasheet: https://atta.szlcsc.com/upload/public/pdf/source/20200828/C727059_6599B6CAC5F3238B9C33E46794659DBE.pdf; Supplier: LCSC; Convert to PCB: yes
footprint SMA-FL_L4.2-W2.7-LS5.2-L-RD
pins: 1 K, 2 A

## SVM860
designator D?
footprint TO-277B_L6.1-W4.3-LS7.0-BR
pins: 1, 2, 3

## TAJB106K025RNJ
designator C?  (value not drawn)
Manufacturer: Kyocera AVX; Add into BOM: yes; Value: 10uF; Tolerance: ±10%; Rated Voltage: 25V; Equivalent Series Resistance(ESR): 2.5Ω@100kHz; Symbol: TAJB106K025RNJ; Device: TAJB106K025RNJ; LCSC Part Name: 10uF ±10% 25V; Supplier Part: C7194; Manufacturer Part: TAJB106K025RNJ; Supplier Footprint: CASE-B-3528; JLCPCB Part Class: Extended Part; Datasheet: https://atta.szlcsc.com/upload/public/pdf/source/20160107/1457707750344.pdf; Supplier: LCSC; Convert to PCB: yes; Operating Temperature: -55℃~+125℃
footprint CAP-SMD_L3.5-W2.8-R-RD
pins: 1, 2

## TEST-POINT
designator 1
footprint TEST-POINT
pins: 1

## TM-2024A
designator SW?  (value not drawn)
Manufacturer: XKB Connection(中国星坤); Add into BOM: yes; Name: TM-2024A; Symbol: TM-2024A; Device: TM-2024A; LCSC Part Name: 四脚两档拨轮开关TM-2024A; Supplier Part: C561480; Manufacturer Part: TM-2024A; Supplier Footprint: SMD; JLCPCB Part Class: Extended Part; Datasheet: https://atta.szlcsc.com/upload/public/pdf/source/20211011/7A4DB3DC37E7D5823B6D92C66ED3191E.pdf; Supplier: LCSC; Convert to PCB: yes
footprint SW-SMD_TM-2024A
pins: 1, 2, 3, 4, 5, 6, 7, 8

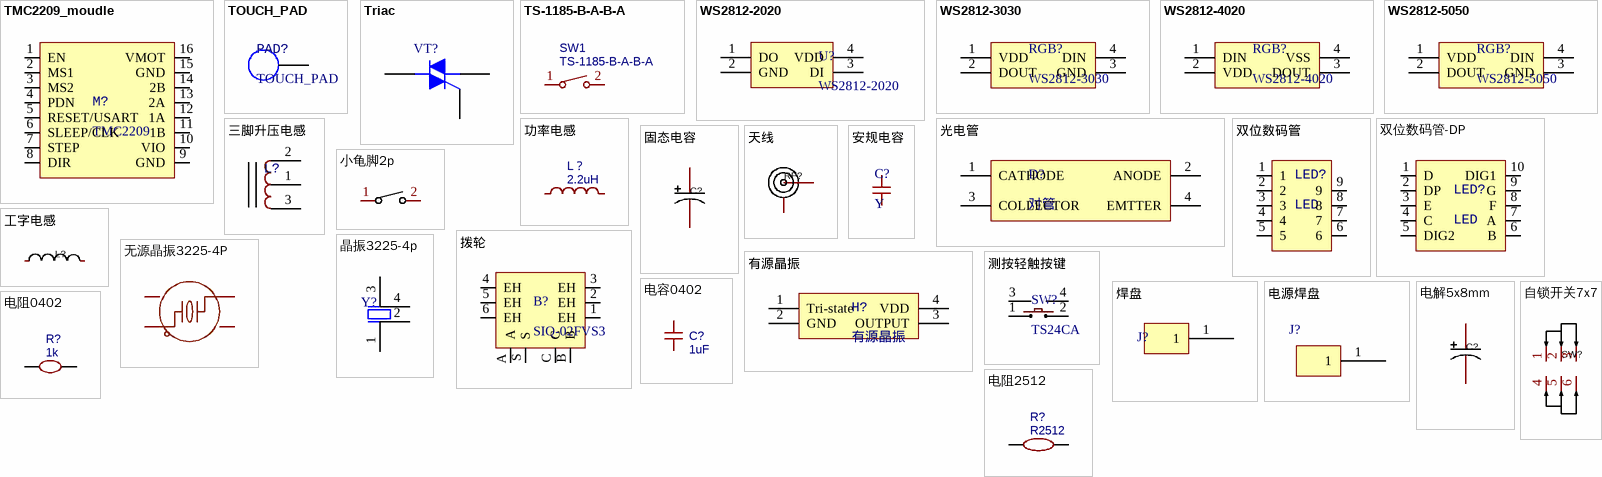
[diagram p2: symbols TMC2209_moudle to 自锁开关7x7]

## TMC2209_moudle
designator M?, comment TMC2209
footprint A4988_Moudle
pins: 1 EN, 2 MS1, 3 MS2, 4 PDN, 5 RESET/USART, 6 SLEEP/CLK, 7 STEP, 8 DIR, 9 GND, 10 VIO, 11 1B, 12 1A, 13 2A, 14 2B, 15 GND, 16 VMOT

## TOUCH_PAD
designator PAD?
footprint TOUCH_PAD
pins: 1

## Triac
designator VT?, comment Z0107NN5AA4  (value not drawn)
Silicon Bidirectional Triode Thyristor; Note: Pin 2 is electrically connected to Pin 4 (TAB); Published: 29-Sep-2000; LatestRevisionDate: 17-Jul-2002; LatestRevisionNote: Re-released for DXP Platform.; DatasheetVersion: 1999; PackageReference: 369-03; Publisher: Altium Limited; PackageDescription: TO, Thru-Hole, Vertical, Heatsink Mounted; 3 In-Line Leads; Pitch 2.28 mm; ComponentLink1Description: Manufacturer Link; ComponentLink1URL: http://www.motorola.com/
footprint SOT223 (SOT223, 4-Leads, Body 6.5x3.5mm, Pitch 2.3mm, Lead Span 7mm, IPC Medium Density)
pins: 1 M1, 2 M2, 3 G, 4

## TS-1185-B-A-B-A
designator SW1
BOM_Manufacturer: XKB Enterprise; Contributor: LCSC; BOM_Supplier: LCSC; BOM_Supplier Part: C561517; BOM_Manufacturer Part: TS-1185-B-A-B-A; BOM_JLCPCB Part Class: Extended Part; spicePre: S; spiceSymbolName: TS-1185-B-A-B-A
footprint SW-SMD_L4.0-W3.0-LS5.0
pins: 1, 2

## WS2812-2020
designator U?
footprint LED-SMD_4P-L2.0-W2.0-TL_WS2812B-2020
pins: 1 DO, 2 GND, 3 DI, 4 VDD

## WS2812-3030
designator RGB?
footprint LED-SMD_4P-L3.0-W3.0-P2.00-LS3.1_YKL-3030AY0203Z-001
pins: 1 VDD, 2 DOUT, 3 GND, 4 DIN

## WS2812-4020
designator RGB?
footprint LED-SMD_WS2812B-4020
pins: 1 DIN, 2 VDD, 3 DOUT, 4 VSS

## WS2812-5050
designator RGB?
footprint LED-SMD_4P-L5.0-W5.0-TL_WS2812B-B
pins: 1 VDD, 2 DOUT, 3 GND, 4 DIN

## 三脚升压电感
designator L?
footprint CD75 -3P (7.8*7*5mm（长宽高）)
pins: 1, 2, 3

## 光电管
designator D?, comment 对管
footprint 光电管
pins: 1 CATHODE, 2 ANODE, 3 COLLECTOR, 4 EMTTER

## 功率电感
designator L？, comment 2.2uH
BOM_Manufacturer: 增益; BOM_Manufacturer Part: HMS0603-2R2; nameAlias: Inductance; Contributor: LCSC; BOM_Supplier: LCSC; BOM_Supplier Part: C967697; BOM_JLCPCB Part Class: Extended Part; spicePre: L; spiceSymbolName: HMS0603-2R2
footprint CD31 (3.5*3*1mm（长宽高）)
footprint CD32 (3.5*3*2mm（长宽高）)
footprint CD42 (4.5*4*2mm（长宽高）)
footprint CD43 (4.5*4*3.2mm（长宽高）)
footprint CD52 (5.8*5.2*3mm（长宽高）)
footprint CD53 (5.8*5.2*3.5mm（长宽高）)
footprint CD54 (5.8*5.2*4.5mm（长宽高）)
footprint CD73 (7.8*7*3.5mm（长宽高）)
footprint CD75 (7.8*7*5mm（长宽高）)
footprint L 0402 (小功率贴片电感)
footprint L 0603 (小功率贴片电感)
footprint L-SMD-0630 (一体化成型电感)
footprint NR2520 (2.5mm*2.0mm*1.0mm(长*宽*高）)
footprint NR3010 (3.0mm*3.0mm*1.0mm(长*宽*高）)
footprint NR3012 (3.0mm*3.0mm*1.2mm(长*宽*高）)
footprint NR3015 (3.0mm*3.0mm*1.5mm(长*宽*高）)
footprint NR4010 (4.0mm*4.0mm*1.0mm(长*宽*高）)
footprint NR4020 (4.0mm*4.0mm*2.0mm(长*宽*高）)
footprint IND-SMD_L13.5-W12.6_TMPA1265SP-100MN-D
footprint IND-SMD_L11.5-W10.0
footprint IND-SMD_L2.0-W1.6-B
pins: 1, 2

## 双位数码管
designator LED?, comment LED
footprint LED-SEG-TH_9P-L21.0-W14.0-P2.54-S18.2-TL
pins: 1, 2, 3, 4, 5, 6, 7, 8, 9

## 双位数码管-DP
designator LED?, comment LED
footprint LED-SEG-TH_10P-L20.1-W16.0-P2.54-S12.70-BL
pins: 1 D, 2 DP, 3 E, 4 C, 5 DIG2, 6 B, 7 A, 8 F, 9 G, 10 DIG1

## 固态电容
designator C?, comment SPZ1HM101F09O00RAXXX  (value not drawn)
Manufacturer: AISHI(艾华集团); Name: 100uF; Add into BOM: yes; Value: 100uF; Tolerance: ±20%; Rated Voltage: 50V; φD: 8mm; L: 9mm; Ripple Current: 2.1A@100kHz; Equivalent Series Resistance(ESR): 40mΩ@100kHz; Lifetime @ Temp: 2000hrs@105℃; Symbol: SPZ1HM101F09O00RAXXX; Device: SPZ1HM101F09O00RAXXX; LCSC Part Name: 100uF ±20% 50V; Supplier Part: C171434; Manufacturer Part: SPZ1HM101F09O00RAXXX; Supplier Footprint: 插件,8x9mm; JLCPCB Part Class: Extended Part; Datasheet: https://atta.szlcsc.com/upload/public/pdf/source/20180111/C171434_15156662769471259234.pdf; Supplier: LCSC; Convert to PCB: yes; Type: -; Lead Spacing: 3.5mm; Operating Temperature: -55℃~+105℃
footprint CAP-TH_BD8.0-P3.50-D0.6-FD
pins: 1, 2

## 天线
designator RF?
Manufacturer: TE Connectivity(美国泰科); Name: 1909763-1; Add into BOM: yes; Symbol: 1909763-1; Device: 1909763-1; LCSC Part Name: 1909763-1; Supplier Part: C392444; Manufacturer Part: 1909763-1; Supplier Footprint: SMD; JLCPCB Part Class: Extended Part; Datasheet: https://atta.szlcsc.com/upload/public/pdf/source/20190912/C392444_2FAEA6F6DE74969AD9DCE273CBF98B7E.pdf; Supplier: LCSC; Convert to PCB: yes
footprint ANT-SMD_1909763-1
pins: 1, 2

## 安规电容
designator C?, comment Y
footprint CAP-TH_L7.5-W4.5-P10.00-D0.6
pins: 1, 2

## 小龟脚2p
designator SW?, comment TS-1185-C-B-B-A  (value not drawn)
Manufacturer: XKB Connectivity(中国星坤); Add into BOM: yes; Contact Current: 50mA; Voltage Rating (DC): 12V; Insulation Resistance: 100mΩ; Circuit: 单刀单掷; Actuator Style: 圆形按钮; Actuator/Cap Color: 黑色; With Lamp: 无; Operating Force: 260gf; Mechanical Life: 100000; Switch Length: 4mm; Switch Width: 3mm; Switch Height: 2.5mm; Strike Gundam: 否; Name: TS-1185-C-B-B-A; Symbol: TS-1185-C-B-B-A; Device: TS-1185-C-B-B-A; LCSC Part Name: 3×4×2.52脚小龟 260gf; Supplier Part: C561523; Manufacturer Part: TS-1185-C-B-B-A; Supplier Footprint: SMD; JLCPCB Part Class: Extended Part; Datasheet: https://atta.szlcsc.com/upload/public/pdf/source/20211011/C2F26DC0AE1820400F54DBF49644F5A1.pdf; Supplier: LCSC; Convert to PCB: yes; Mounting Style: 立贴; Operating Temperature: -30℃~+85℃
footprint SW-SMD_L4.0-W2.9-LS5.0
pins: 1, 2

## 工字电感
designator L?
Manufacturer: SXN(顺翔诺); Name: 1mH; Symbol: PK0608-102MB; Add into BOM: yes; Type: 工字电感; Value: 1mH; Tolerance: ±20%; Rated Current: 200mA; DC Resistance (DCR): 3.2Ω; Device: PK0608-102MB; LCSC Part Name: 1mH ±20%; Supplier Part: C27237; Manufacturer Part: PK0608-102MB; Supplier Footprint: 插件; JLCPCB Part Class: Extended Part; Datasheet: https://atta.szlcsc.com/upload/public/pdf/source/20210810/BA6D1DA7D4BCBB7C641BC97B42CFC6FF.pdf; Supplier: LCSC; Convert to PCB: yes
3D model IND-TH_BD7.0-H10.0-P2.50-D0.7
pins: 1, 2

## 拨轮
designator B?, comment SIQ-02FVS3
footprint SW-SMD_SIQ-02FVS3_1
pins: 1 EH, 2 EH, 3 EH, 4 EH, 5 EH, 6 EH, A, B, C, S

## 无源晶振3225-4P
designator X?
Manufacturer: JWT(晶威特); Name: CF4008M00012T8188031; Add into BOM: yes; Symbol: CF4008M00012T8188031; Device: CF4008M00012T8188031; LCSC Part Name: 8MHz ±10ppm 12pF; Supplier Part: C2933033; Manufacturer Part: CF4008M00012T8188031; Supplier Footprint: SMD3225-4P; JLCPCB Part Class: Extended Part; Datasheet: https://atta.szlcsc.com/upload/public/pdf/source/20200819/C709013_6A0B9F53574FE077C40D7326DBB1AE0C.pdf; Supplier: LCSC; Convert to PCB: yes
footprint CRYSTAL-SMD_4P-L3.2-W2.5-BL
pins: 1, 2 GND, 3, 4 GND

## 晶振3225-4p
designator Y?  (value not drawn)
footprint CRYSTAL-SMD_4P-L3.2-W2.5-BL
pins: 1, 2, 3, 4 2

## 有源晶振
designator H?
footprint CRYSTAL-SMD_4P-L3.2-W2.5-BL
pins: 1 Tri-state, 2 GND, 3 OUTPUT, 4 VDD

## 测按轻触按键
designator SW?, comment TS24CA
2x4x3.5
footprint SW-SMD_L4.7-W3.5-P3.35-EH
pins: 1, 2, 3, 4

## 焊盘
designator J?
footprint 焊盘
pins: 1

## 电容0402
designator C?, comment 1uF
BOM_Manufacturer: Samsung Electro-Mechanics; BOM_Manufacturer Part: CL05A105KL5NRNC; nameAlias: Capacitance; Contributor: LCSC; BOM_Supplier: LCSC; BOM_Supplier Part: C307413; BOM_JLCPCB Part Class: Extended Part; spicePre: C; spiceSymbolName: CL05A105KL5NRNC
footprint CAP_0402
pins: 1, 2

## 电源焊盘
designator J?
footprint 电源焊盘
pins: 1

## 电解5x8mm
designator C?, comment 6R3AREP391M05X8E14P35  (value not drawn)
Manufacturer: APAQ(钰邦); Name: 390uF; Add into BOM: yes; Value: 390uF; Tolerance: ±20%; Rated Voltage: 6.3V; Equivalent Series Resistance(ESR): 14mΩ@100kHz; φD: 5mm; L: 8mm; Lifetime @ Temp: 3000hrs@105℃; Symbol: 6R3AREP391M05X8E14P35; Device: 6R3AREP391M05X8E14P35; LCSC Part Name: 390uF ±20% 6.3V; Supplier Part: C217547; Manufacturer Part: 6R3AREP391M05X8E14P35; Supplier Footprint: 插件,D5xL8mm; JLCPCB Part Class: Extended Part; Datasheet: https://atta.szlcsc.com/upload/public/pdf/source/20180503/C217562_A7C3CBF93663EEEDE9AA2845D58DD693.pdf; Supplier: LCSC; Convert to PCB: yes; Ripple Current: -; Type: -; Lead Spacing: 2.5mm; Operating Temperature: -55℃~+105℃
footprint CAP-TH_BD5.0-P2.00-D0.8-FD
pins: 1, 2

## 电阻0402
designator R?, comment 1k
BOM_Manufacturer: UniOhm; BOM_Manufacturer Part: 0402WGF5601TCE; nameAlias: Resistance; Resistance (Ohms): 5.6K; BOM_Supplier: LCSC; BOM_Supplier Part: C25908; BOM_JLCPCB Part Class: Basic Part; spicePre: R; spiceSymbolName: 0402WGF5601TCE
footprint RES_0402
pins: 1, 2

## 电阻2512
designator R?, comment R2512
BOM_Manufacturer: ResistorToday; BOM_Manufacturer Part: EWSL2512FL500S9; nameAlias: Resistance; Contributor: LCSC; Resistance (Ohms): 0.0005; BOM_Supplier: LCSC; BOM_Supplier Part: C349161; BOM_JLCPCB Part Class: Extended Part; spicePre: R; spiceSymbolName: EWSL2512FL500S9
footprint RES-SMD_L6.3-W3.1-1
pins: 1, 2

## 自锁开关7x7
designator SW?, comment YTSPS-22E70L  (value not drawn)
Manufacturer: YIYUAN(怡远); Add into BOM: yes; Circuit: 双刀双掷; Self Lock / No Lock: 自锁; Actuator Style: 矩形柱塞; Actuator/Cap Color: 蓝色; Pin Style: PC引脚; Name: YTSPS-22E70L; Symbol: YTSPS-22E70L; Device: YTSPS-22E70L; LCSC Part Name: 按键开关7.0x7.0 自锁3.0x2.0按键头180gf PUSH; Supplier Part: C2911140; Manufacturer Part: YTSPS-22E70L; Supplier Footprint: 插件; JLCPCB Part Class: Extended Part; Datasheet: https://atta.szlcsc.com/upload/public/pdf/source/20211104/82A32FBAB74C0C62B9F2B7D4B71171FC.pdf; Supplier: LCSC; Convert to PCB: yes; Mounting Style: 直插
footprint SW-TH_YTSPS-22E70L
pins: 1, 2, 3, 4, 5, 6